# EAGLE library part ORANGE_PI_ADAPTER_2 (library thanics_robotics)
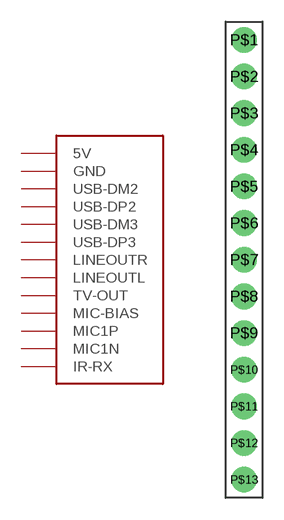
[diagram p11: symbol with the pads of ORANGE_PI_ADAPTER2; footprint ORANGE_PI_ADAPTER2]

Designator prefix -

## ORANGE_PI_ADAPTER_2  [ORANGE_PI_ADAPTER2]
P$1  5V
P$2  GND
P$3  USB-DM2
P$4  USB-DP2
P$5  USB-DM3
P$6  USB-DP3
P$7  LINEOUTR
P$8  LINEOUTL
P$9  TV-OUT
P$10  MIC-BIAS
P$11  MIC1P
P$12  MIC1N
P$13  IR-RX

## Footprint ORANGE_PI_ADAPTER2 (pad centres in mm)
drill 1 pad 1.778: P$1 0,10.16; P$2 0,7.62; P$3 0,5.08; P$4 0,2.54; P$5 0,0; P$6 0,-2.54; P$7 0,-5.08; P$8 0,-7.62; P$9 0,-10.16; P$10 0,-12.7; P$11 0,-15.24; P$12 0,-17.78; P$13 0,-20.32